# EAGLE library part SPI (library mylibrary)
Robotech Serial Peripheral Interface Connector
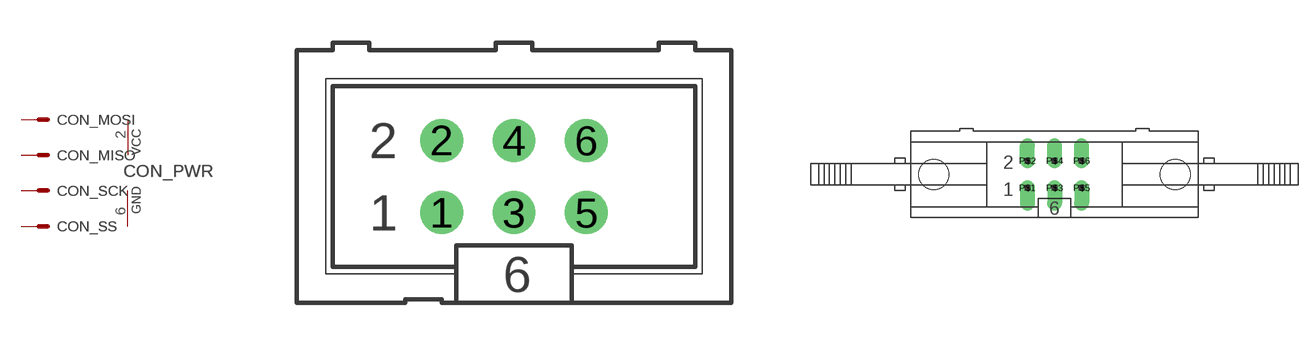
[diagram p5: symbol with the pads of ML6; footprints ML6, FLAT-6-S-LOCK-LARGEHOLE]

Designator prefix CON; gates _MOSI=M _MISO=M _SCK=M _SS=M _PWR=PWRN

## SPI  [ML6]
1  _MISO:S  pas
2  _PWR:VCC  pwr
3  _SCK:S  pas
4  _MOSI:S  pas
5  _SS:S  pas
6  _PWR:GND  pwr

## SPISPI-LOCKS  [FLAT-6-S-LOCK-LARGEHOLE]
P$1  _MISO:S  pas
P$2  _PWR:VCC  pwr
P$3  _SCK:S  pas
P$4  _MOSI:S  pas
P$5  _SS:S  pas
P$6  _PWR:GND  pwr

## Footprint ML6 (pad centres in mm)
drill 1: 1 -2.54,-1.27; 2 -2.54,1.27; 3 0,-1.27; 4 0,1.27; 5 2.54,-1.27; 6 2.54,1.27

## Footprint FLAT-6-S-LOCK-LARGEHOLE (pad centres in mm)
drill 0.914 offset: P$1 -2.54,-1.27; P$2 -2.54,1.27; P$3 0,-1.27; P$4 0,1.27; P$5 2.54,-1.27; P$6 2.54,1.27
hole 2.8 at 11.303,0
hole 2.8 at -11.303,0